# EAGLE library part MN3207 (library analog-audio-chips)
1024-stage low voltage operation low noise BBD
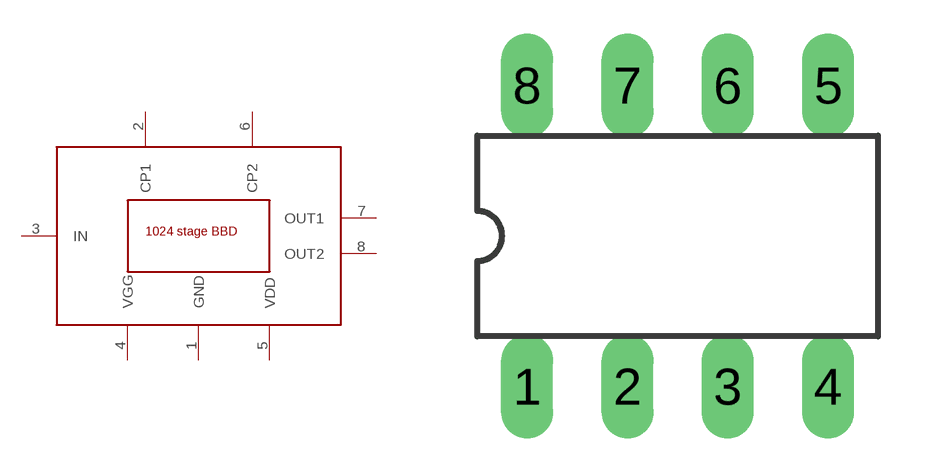
[diagram p4: symbol with the pads of DIL8; footprint DIL8]

Designator prefix -

## MN3207  [DIL8]
1  GND
2  CP1
3  IN
4  VGG
5  VDD
6  CP2
7  OUT1
8  OUT2

## Footprint DIL8 (pad centres in mm)
Dual In Line package type P
drill 0.813 long: 1 -3.81,-3.81; 2 -1.27,-3.81; 3 1.27,-3.81; 4 3.81,-3.81; 5 3.81,3.81; 6 1.27,3.81; 7 -1.27,3.81; 8 -3.81,3.81